# EAGLE library part IRL6372TRPBF (library dropper_torpedo_v3)
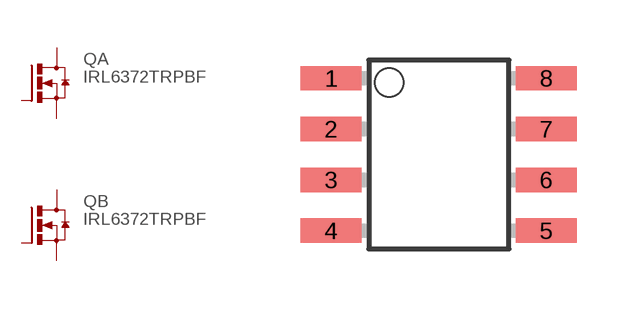
[diagram p1: symbol with the pads of SO-8; footprint SO-8]

Designator prefix Q; gates A=MOSFET_N B=MOSFET_N

## IRL6372TRPBF  [SO-8]
1  B:S  pas
2  B:G  pas
3  A:S  pas
4  A:G  pas
5  A:D  pas
6  A:D  pas
7  B:D  pas
8  B:D  pas

## Footprint SO-8 (pad centres in mm)
SO 8 small outline
smd 1.524 x 0.61: 1 -2.692,1.905; 2 -2.692,0.635; 3 -2.692,-0.635; 4 -2.692,-1.905; 5 2.692,-1.905; 6 2.692,-0.635; 7 2.692,0.635; 8 2.692,1.905